# Altium schematic symbol library 2Pin.SchLib: 1 symbol
Pins are listed as number, name and electrical type; pins without a type are passive.

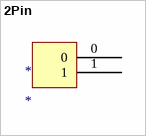
[diagram p0: symbol 2Pin]

## 2Pin
designator *
footprint 2Pin
pins: 0, 1